# Altium footprint library 8-TDFN - ANALOG.PcbLib: 1 footprints
Each footprint in its own frame and in the unit in brackets; x right, y up, seen from the top. Pads: shape width x height; smd on the part's side, far side on the other; paste and mask are expansions set on the pad; w line width, h text height; cw(c..) or ccw(c..) is an arc to the next point about the centre after c.
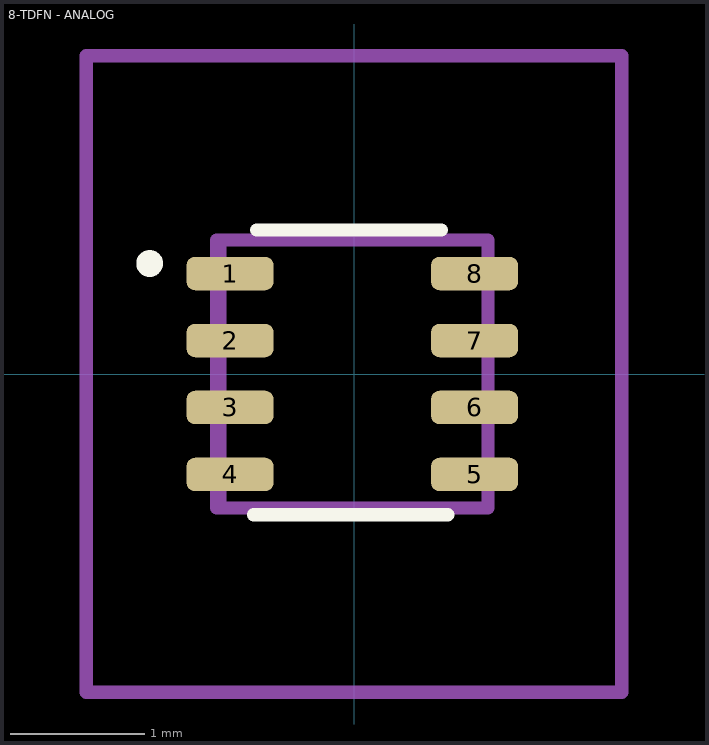
[diagram p0: the footprint, top view; thin cyan lines are the x and y axes]

## 8-TDFN - ANALOG [mm]
pads (8):
  rrect50% 0.65x0.25 smd mask+0.05: 1(-0.925,0.75) 2(-0.925,0.25) 3(-0.925,-0.25) 4(-0.925,-0.75) 5(0.9,-0.75) 6(0.9,-0.25) 7(0.9,0.25) 8(0.9,0.75)
Top Overlay:
  lines w0.1: -1.575,0.825 cw(c-1.525,0.825) -1.475,0.825 cw(c-1.525,0.825) -1.572,0.842 ; -0.75,-1.05 0.7,-1.05 ; -0.725,1.075 0.65,1.075
Top 3D Body:
  lines w0.1: -1.025,-1 -1.025,1 1,1 1,-1 -1.025,-1
  text "1" at -0.4,0.65 h0.2
Mechanical 15:
  lines w0.1: -1,-1 -1,1 1,1 1,-1 -1,-1
Mechanical 20:
  lines w0.1: -2,-2.375 -2,2.375 2,2.375 2,-2.375 -2,-2.375
Top Designator:
  text ".Designator" at 0.008,-1.225 h0.25
3D body "MAX15062AATA+T.stp": height 0.77, standoff -0.03, extent -1,-1 1,1